# Altium schematic symbol library 5-147278-2.SchLib: 1 symbol
Pins are listed as number, name and electrical type; pins without a type are passive.

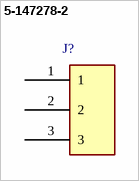
[diagram p0: symbol 5-147278-2]

## 5-147278-2
designator J?  (value not drawn)
Supplier 1: Newark; Supplier Part Number 1: 80AH0193; Series: 5-147278-2
pins: 1, 2, 3